# Altium footprint library PCB1.PcbLib: 50 footprints (part 4 of 4)
Each footprint in its own frame and in the unit in brackets; x right, y up, seen from the top. Pads: shape width x height; smd on the part's side, far side on the other; paste and mask are expansions set on the pad; w line width, h text height; cw(c..) or ccw(c..) is an arc to the next point about the centre after c.
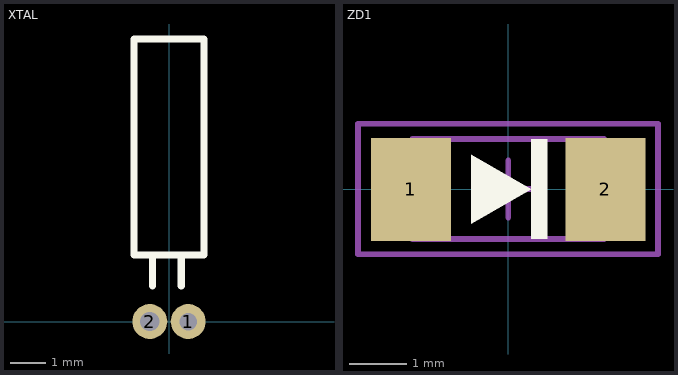
[diagram p3: the footprints below, top view; thin cyan lines are the x and y axes]

## XTAL [mm]
pads (2):
  round 1 hole 0.5: 1(0.55,0)
  round 1 hole 0.55: 2(-0.55,0)
Top Overlay:
  lines w0.203: -0.475,1.016 -0.475,1.905 ; 0.35,1.016 0.35,1.905 ; -1,1.905 1,1.905 1,8.093 -1,8.093 -1,1.905

## ZD1 [mm]
pads (2):
  rect 1.4x1.8 smd: 1(-1.7,0) 2(1.7,0)
Top Overlay:
  rectangle: 0.402,-0.869 0.689,0.881
  region: 0.402,0.004 -0.642,0.606 -0.642,-0.6
Mechanical 13:
  lines w0.1: -1.674,-0.869 1.676,-0.869 1.676,0.881 -1.674,0.881 -1.674,-0.869
Mechanical 15:
  lines w0.1: -0.499,0.006 0.501,0.006 ; 0.001,-0.494 0.001,0.506 ; -2.626,-1.137 2.619,-1.137 2.619,1.149 -2.626,1.149 -2.626,-1.137
3D body "DIODE-SOD80.step": height 1.6, standoff 0, extent -1.82,-0.8 1.88,0.8